# Altium integrated library 430182043816.IntLib: 1 symbol
Pins are listed as number, name and electrical type; pins without a type are passive.

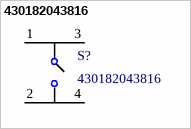
[diagram p0: symbol 430182043816]

## 430182043816
designator S?
WS-TASV SPST 50 mA 12 V 160 gf Top 4.3 mm Actuated Gull Wing Tactile Switch; MF: Wurth Electronics; MP: 430182043816; SnapEDA_Link: https://www.snapeda.com/parts/430182043816/Wurth%20Electronics%20Inc./view-part/?ref=snap; Availability: Unavailable; Package: None; Price: None; Value: *
footprint 430182043816
pins: 1, 2, 3, 4